# EAGLE library part J-08- (library con-headers-jp)
HEADER JACK PINS
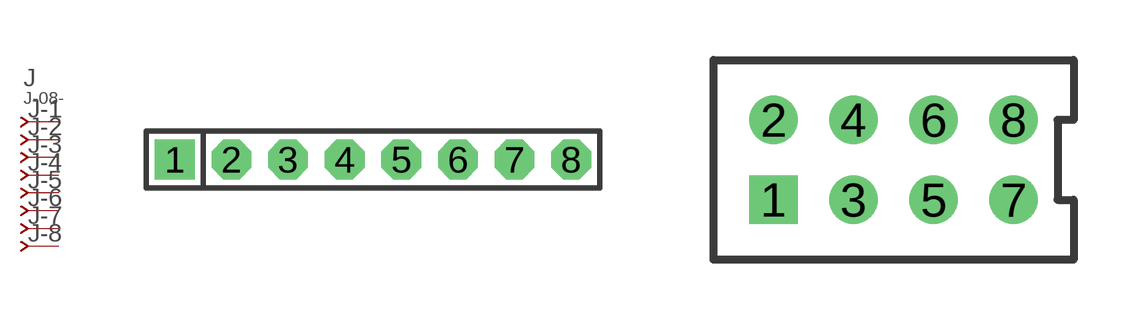
[diagram p1: symbol with the pads of SIP-100-08-40; footprints SIP-100-08-40, 79107-08]

Designator prefix J; gates -2=J-N -3=J-N -4=J-N -5=J-N -6=J-N -7=J-N -8=J-N -1=J-NV

## J-08-SIP-100-40  [SIP-100-08-40]
1  -1:J  pas
2  -2:J  pas
3  -3:J  pas
4  -4:J  pas
5  -5:J  pas
6  -6:J  pas
7  -7:J  pas
8  -8:J  pas

## J-08-79107  [79107-08]
Pads as for SIP-100-08-40

## J-08-79109  [79109-08]
Pads as for SIP-100-08-40

## J-08-87264  [87264-08]
Pads as for SIP-100-08-40

## J-08-87340  [87340-08]
Pads as for SIP-100-08-40

## J-08-100-2X04  [DIL-100-2X04]
Pads as for SIP-100-08-40

## J-08-2MM-2X04  [DIL-2MM-2X04]
Pads as for SIP-100-08-40

## J-08-100-2X04_M  [DIL-100-2X04_M]
Pads as for SIP-100-08-40

## J-08-2MM-2X04_M  [DIL-2MM-2X04_M]
Pads as for SIP-100-08-40

## J-08-535512  [535512-08]
Pads as for SIP-100-08-40

## J-08-SIP-100-32  [SIP-100-08-32]
Pads as for SIP-100-08-40

## J-08-SIP-100-40Y  [SIP-100-08-40Y]
Pads as for SIP-100-08-40

## J-08-SIP-100-32Y  [SIP-100-08-32Y]
Pads as for SIP-100-08-40

## J-08-KK-4455-B08  [KK-4455-B08]
Pads as for SIP-100-08-40

## J-08-KK-4455-A08  [KK-4455-A08]
Pads as for SIP-100-08-40

## J-08-KK-4455-C08  [KK-4455-C08]
Pads as for SIP-100-08-40

## J-08-.050-2X04  [DIL-.050-2X04]
Pads as for SIP-100-08-40

## J-08-SIP-050-26  [SIP-.050-1X08]
Pads as for SIP-100-08-40

## Footprint SIP-100-08-40 (pad centres in mm)
SIP Header - 0.1", 40 mil drill
drill 1.016 pad 1.778 square: 1 -8.89,0
drill 1.016 pad 1.778 octagon: 2 -6.35,0; 3 -3.81,0; 4 -1.27,0; 5 1.27,0; 6 3.81,0; 7 6.35,0; 8 8.89,0

## Footprint 79107-08 (pad centres in mm)
Molex Board-To-Board Receptacal 2.00mm (.079") Pitch Milli-Grid Header, Vertical, Through-Hole Mates with: 87759, 87762, 87758, 87760
drill 0.711 square: 1 -3,-1
drill 0.711: 2 -3,1; 3 -1,-1; 4 -1,1; 5 1,-1; 6 1,1; 7 3,-1; 8 3,1

## Footprint 79109-08 (pad centres in mm)
Molex Board-to-Board Receptacal 2.00mm (.079") Pitch Milli-Grid Header, Vertical, Top/Bottom Entry Mates with: 87758, 87759, 87760, 87831, 87832, 87833
smd 1.12 x 1.83: 1 -3,-2.65; 2 -3,2.65; 3 -1,-2.65; 4 -1,2.65; 5 1,-2.65; 6 1,2.65; 7 3,-2.65; 8 3,2.65
hole 0.914 at -2,0
hole 0.914 at -3,1
hole 0.914 at -3,-1
hole 0.914 at -1,-1
hole 0.914 at -1,1
hole 0.914 at 1,-1
hole 0.914 at 1,1
hole 0.914 at 2,0
hole 0.914 at 3,1
hole 0.914 at 3,-1

## Footprint 87264-08 (pad centres in mm)
Molex Board-To-Board Receptacal 2.00mm (.079") Pitch Milli-Grid Header, Side Entry Mates with 2mm(.079") Mill-Grid Header
drill 0.914 square: 1 -3,-2.25
drill 0.914: 2 -3,2.25; 3 -1,-2.25; 4 -1,2.25; 5 1,-2.25; 6 1,2.25; 7 3,-2.25; 8 3,2.25

## Footprint 87340-08 (pad centres in mm)
Molex Board-To-Board Receptacal 2.00mm (.079") Pitch Milli-Grid Header, Vertical, Top/Bottom Entry Mates with: 87758, 87759, 87760, 87831, 87832, 87833
smd 1 x 1.75: 1 -3,-2.5; 2 -3,2.5; 3 -1,-2.5; 4 -1,2.5; 5 1,-2.5; 6 1,2.5; 7 3,-2.5; 8 3,2.5
hole 0.914 at -4,0
hole 0.914 at -3,1
hole 0.914 at -3,-1
hole 0.914 at -1,-1
hole 0.914 at -1,1
hole 0.914 at 4,0
hole 0.914 at 1,1
hole 0.914 at 1,-1
hole 0.914 at 3,1
hole 0.914 at 3,-1

## Footprint DIL-100-2X04 (pad centres in mm)
PIN HEADER - 0.1"
drill 1.016 square: 1 -3.81,-1.27
drill 1.016 octagon: 2 -3.81,1.27; 3 -1.27,-1.27; 4 -1.27,1.27; 5 1.27,-1.27; 6 1.27,1.27; 7 3.81,-1.27; 8 3.81,1.27

## Footprint DIL-2MM-2X04 (pad centres in mm)
PIN HEADER - 2MM"
drill 0.711 pad 1.321 square: 1 -3,-1
drill 0.711 pad 1.321: 2 -3,1; 3 -1,-1; 4 -1,1; 5 1,-1; 6 1,1; 7 3,-1; 8 3,1

## Footprint DIL-100-2X04_M (pad centres in mm)
PIN HEADER - MIRRORED 0.1"
drill 1.016 square: 1 -3.81,1.27
drill 1.016 octagon: 2 -3.81,-1.27; 3 -1.27,1.27; 4 -1.27,-1.27; 5 1.27,1.27; 6 1.27,-1.27; 7 3.81,1.27; 8 3.81,-1.27

## Footprint DIL-2MM-2X04_M (pad centres in mm)
PIN HEADER - MIRRORED 2MM
drill 0.711 pad 1.321 square: 1 -3,1
drill 0.711 pad 1.321: 2 -3,-1; 3 -1,1; 4 -1,-1; 5 1,1; 6 1,-1; 7 3,1; 8 3,-1

## Footprint 535512-08 (pad centres in mm)
AMPMODU - 535512 Series
drill 1.016 square: 1 -3.81,0
drill 1.016 octagon: 2 -3.81,7.938; 3 -1.27,0; 4 -1.27,7.938; 5 1.27,0; 6 1.27,7.938; 7 3.81,0; 8 3.81,7.938

## Footprint SIP-100-08-32 (pad centres in mm)
SIP Header - 0.1", 32 mil drill
drill 0.813 pad 1.778 square: 1 -8.89,0
drill 0.813 pad 1.778 octagon: 2 -6.35,0; 3 -3.81,0; 4 -1.27,0; 5 1.27,0; 6 3.81,0; 7 6.35,0; 8 8.89,0

## Footprint SIP-100-08-40Y (pad centres in mm)
SIP Header - 0.1", 40 mil drill
drill 1.016 long: 1 -8.89,0; 2 -6.35,0; 3 -3.81,0; 4 -1.27,0; 5 1.27,0; 6 3.81,0; 7 6.35,0; 8 8.89,0

## Footprint SIP-100-08-32Y (pad centres in mm)
SIP Header - 0.1", 32 mil drill
drill 0.813 long: 1 -8.89,0; 2 -6.35,0; 3 -3.81,0; 4 -1.27,0; 5 1.27,0; 6 3.81,0; 7 6.35,0; 8 8.89,0

## Footprint KK-4455-B08 (pad centres in mm)
KK100 Molex 4455 Series, Vertical, Bottom Entry, 0.1" pitch
drill 1.067 long: 1 -8.89,0; 2 -6.35,0; 3 -3.81,0; 4 -1.27,0; 5 1.27,0; 6 3.81,0; 7 6.35,0; 8 8.89,0
hole 1.778 at -8.89,3.81
hole 1.778 at -6.35,3.81
hole 1.778 at -3.81,3.81
hole 1.778 at -1.27,3.81
hole 1.778 at 1.27,3.81
hole 1.778 at 3.81,3.81
hole 1.778 at 6.35,3.81
hole 1.778 at 8.89,3.81

## Footprint KK-4455-A08 (pad centres in mm)
KK100 Molex 4455 Series, Right Angle, 0.1" pitch
drill 1.067 long: 1 -8.89,0; 2 -6.35,0; 3 -3.81,0; 4 -1.27,0; 5 1.27,0; 6 3.81,0; 7 6.35,0; 8 8.89,0

## Footprint KK-4455-C08 (pad centres in mm)
KK100 Molex 4455 Series, Vertical, Top Entry, 0.1" pitch
drill 1.016 pad 1.778 octagon: 1 -8.89,0; 2 -6.35,0; 3 -3.81,0; 4 -1.27,0; 5 1.27,0; 6 3.81,0; 7 6.35,0; 8 8.89,0
hole 1.778 at -8.89,2.54
hole 1.778 at -6.35,2.54
hole 1.778 at -3.81,2.54
hole 1.778 at -1.27,2.54
hole 1.778 at 1.27,2.54
hole 1.778 at 3.81,2.54
hole 1.778 at 6.35,2.54
hole 1.778 at 8.89,2.54

## Footprint DIL-.050-2X04 (pad centres in mm)
Designed to fit Samtec FW series
drill 0.66 pad 1.118: 1 0.508,-0.635; 2 0.508,0.635; 3 1.778,-0.635; 4 1.778,0.635; 5 3.048,-0.635; 6 3.048,0.635; 7 4.318,-0.635; 8 4.318,0.635

## Footprint SIP-.050-1X08 (pad centres in mm)
SIP Header - CONN HEADER .050" 8POS PCB GOLD 26 mil drill, 40mil diam Offset centers for friction lock Sullins .050" Male Headers <http://www.sullinscorp.com/catalogs/82_PAGE90-91_.050_MALE_HDR_ST_RA_SMT.pdf>
drill 0.66 pad 1.016 square: 1 0,0.051
drill 0.66 pad 1.016: 2 1.27,-0.051; 3 2.54,0.051; 4 3.81,-0.051; 5 5.08,0.051; 6 6.35,-0.051; 7 7.62,0.051; 8 8.89,-0.051